# Altium integrated library TI_Logic_Little_Logic.IntLib: 1164 symbols (part 6 of 35)
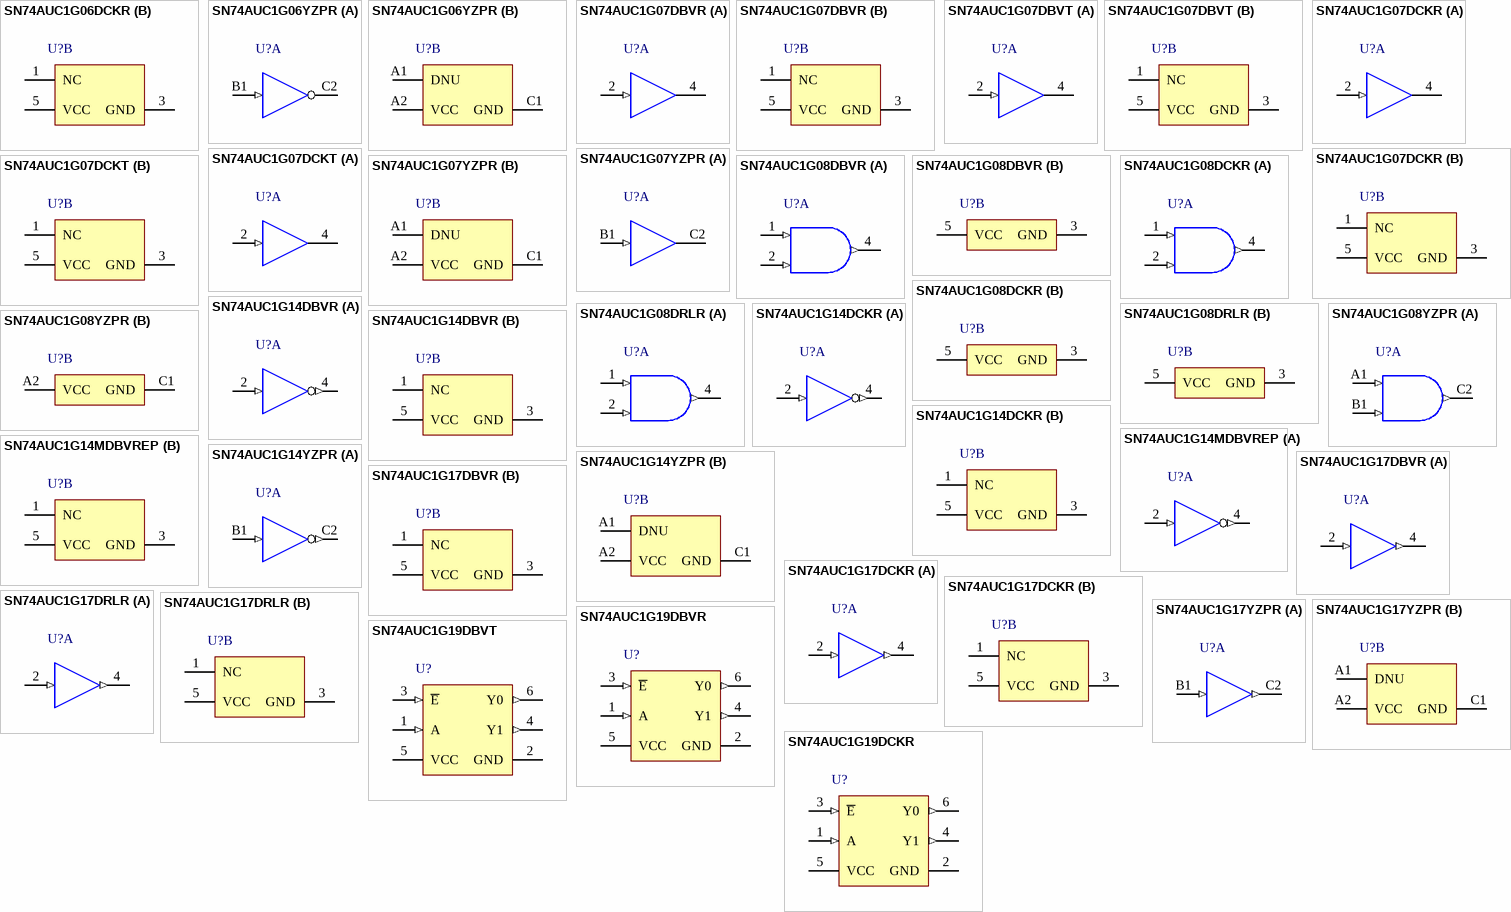
[diagram p65: symbols SN74AUC1G06DCKR to SN74AUC1G19DCKR]

## SN74AUC1G07DCKR
designator U?
Single Buffer/Driver With Open-Drain Output, DCK0005A, LARGE T&R; Generic Part Number: SN74AUC1G07; Manufacturer: Texas Instruments; PartNumber: SN74AUC1G07DCKR; VCC(Min)(V): 0.8; VCC(Max)(V): 2.7; Output Type: CMOS; ICC @ Nom Voltage(Max)(mA): 0.01; Bits(#): 1; F @ Nom Voltage(Max)(Mhz): 250; Rating: Catalog; Technology Family: AUC; Voltage(Nom)(V): 0.8,1.2,1.5,1.8,2.5; Schmitt Trigger: No; Output Drive (IOL/IOH)(Max)(mA): 9/-9; tpd @ Nom Voltage(Max)(ns): 4.7,3.3,2.4,2.3,1.8; Logic: True; Sub-Family: Non-Inverting Buffer/Driver; DatasheetVersion: SCES373Q; PackageReference: DCK0005A; Supplier 1: Mouser; Supplier Part Number 1: 595-SN74AUC1G07DCKR; Supplier 2: Digi-Key; Supplier Part Number 2: 296-12464-2-ND; Supplier 3: Digi-Key; Supplier Part Number 3: 296-12464-1-ND; Supplier 4: Digi-Key; Supplier Part Number 4: 296-12464-6-ND; Input Type: CMOS; Operating Temperature Range(C): -40 to 85; 3-State Output: No; ComponentLink1Description: Manufacturer URL; ComponentLink1URL: http://www.ti.com/; ComponentLink2Description: Datasheet; ComponentLink2URL: http://www.ti.com/lit/ds/symlink/sn74auc1g07.pdf
footprint DCK0005A_N (SOT23, 5-Leads, Body 2.15x1.4mm, Pitch 0.65mm, IPC Medium Density)
footprint DCK0005A_M (SOT23, 5-Leads, Body 2.15x1.4mm, Pitch 0.65mm, IPC Low Density)
footprint DCK0005A_L (SOT23, 5-Leads, Body 2.15x1.4mm, Pitch 0.65mm, IPC High Density)
part A pins: 2 A (in) "Input A", 4 Y (oc) "Output Y"
part B pins: 1 NC "No Connection", 3 GND (power) "Ground Pin", 5 VCC (power) "Power Pin"

## SN74AUC1G07DCKT
designator U?
Single Buffer/Driver With Open-Drain Output, DCK0005A, SMALL T&R; Generic Part Number: SN74AUC1G07; Manufacturer: Texas Instruments; PartNumber: SN74AUC1G07DCKT; VCC(Min)(V): 0.8; VCC(Max)(V): 2.7; Output Type: CMOS; ICC @ Nom Voltage(Max)(mA): 0.01; Bits(#): 1; F @ Nom Voltage(Max)(Mhz): 250; Rating: Catalog; Technology Family: AUC; Voltage(Nom)(V): 0.8,1.2,1.5,1.8,2.5; Schmitt Trigger: No; Output Drive (IOL/IOH)(Max)(mA): 9/-9; tpd @ Nom Voltage(Max)(ns): 4.7,3.3,2.4,2.3,1.8; Logic: True; Sub-Family: Non-Inverting Buffer/Driver; DatasheetVersion: SCES373Q; PackageReference: DCK0005A; Supplier 1: Mouser; Supplier Part Number 1: 595-SN74AUC1G07DCKT; Supplier 2: Digi-Key; Supplier Part Number 2: SN74AUC1G07DCKT-ND; Input Type: CMOS; Operating Temperature Range(C): -40 to 85; 3-State Output: No; ComponentLink1Description: Manufacturer URL; ComponentLink1URL: http://www.ti.com/; ComponentLink2Description: Datasheet; ComponentLink2URL: http://www.ti.com/lit/ds/symlink/sn74auc1g07.pdf
footprint DCK0005A_N (SOT23, 5-Leads, Body 2.15x1.4mm, Pitch 0.65mm, IPC Medium Density)
footprint DCK0005A_M (SOT23, 5-Leads, Body 2.15x1.4mm, Pitch 0.65mm, IPC Low Density)
footprint DCK0005A_L (SOT23, 5-Leads, Body 2.15x1.4mm, Pitch 0.65mm, IPC High Density)
part A pins: 2 A (in) "Input A", 4 Y (oc) "Output Y"
part B pins: 1 NC "No Connection", 3 GND (power) "Ground Pin", 5 VCC (power) "Power Pin"

## SN74AUC1G07YZPR
designator U?
Single Buffer/Driver With Open-Drain Output, YZP0005ADAD, LARGE T&R; Generic Part Number: SN74AUC1G07; Manufacturer: Texas Instruments; PartNumber: SN74AUC1G07YZPR; VCC(Min)(V): 0.8; VCC(Max)(V): 2.7; Output Type: CMOS; ICC @ Nom Voltage(Max)(mA): 0.01; Bits(#): 1; F @ Nom Voltage(Max)(Mhz): 250; Rating: Catalog; Technology Family: AUC; Voltage(Nom)(V): 0.8,1.2,1.5,1.8,2.5; Schmitt Trigger: No; Output Drive (IOL/IOH)(Max)(mA): 9/-9; tpd @ Nom Voltage(Max)(ns): 4.7,3.3,2.4,2.3,1.8; Logic: True; Sub-Family: Non-Inverting Buffer/Driver; DatasheetVersion: SCES373Q; PackageReference: YZP0005ADAD; Supplier 1: Mouser; Supplier Part Number 1: 595-SN74AUC1G07YZPR; Supplier 2: Digi-Key; Supplier Part Number 2: 296-18550-2-ND; Supplier 3: Digi-Key; Supplier Part Number 3: 296-18550-1-ND; Supplier 4: Digi-Key; Supplier Part Number 4: 296-18550-6-ND; Input Type: CMOS; Operating Temperature Range(C): -40 to 85; 3-State Output: No; ComponentLink1Description: Manufacturer URL; ComponentLink1URL: http://www.ti.com/; ComponentLink2Description: Datasheet; ComponentLink2URL: http://www.ti.com/lit/ds/symlink/sn74auc1g07.pdf
footprint YZP0005ADAD (BGA, 5-Balls, Body 1.39x0.89mm, Pitch 0.5mm)
part A pins: B1 A (in) "Input A", C2 Y (oc) "Output Y"
part B pins: A1 DNU "Do not use", A2 VCC (power) "Power Pin", C1 GND (power) "Ground Pin"

## SN74AUC1G08DBVR
designator U?
Single 2-Input Positive-AND Gate, DBV0005A, LARGE T&R; Generic Part Number: SN74AUC1G08; Manufacturer: Texas Instruments; PartNumber: SN74AUC1G08DBVR; VCC(Min)(V): 0.8; VCC(Max)(V): 2.7; Output Type: CMOS; ICC @ Nom Voltage(Max)(mA): 0.01; Bits(#): 1; F @ Nom Voltage(Max)(Mhz): 250; Rating: Catalog; Technology Family: AUC; Voltage(Nom)(V): 0.8,1.2,1.5,1.8,2.5; Schmitt Trigger: No; Output Drive (IOL/IOH)(Max)(mA): 9/-9; tpd @ Nom Voltage(Max)(ns): 4.7,3.3,2.3,1.7,1.6; Logic: True; Gate Type: AND; DatasheetVersion: SCES374O; PackageReference: DBV0005A; Supplier 1: Mouser; Supplier Part Number 1: 595-SN74AUC1G08DBVR; Supplier 2: Digi-Key; Supplier Part Number 2: 296-13170-2-ND; Supplier 3: Digi-Key; Supplier Part Number 3: 296-13170-1-ND; Supplier 4: Digi-Key; Supplier Part Number 4: 296-13170-6-ND; Input Type: CMOS; Operating Temperature Range(C): -40 to 85; Sub-Family: AND Gate; 3-State Output: No; ComponentLink1Description: Manufacturer URL; ComponentLink1URL: http://www.ti.com/; ComponentLink2Description: Datasheet; ComponentLink2URL: http://www.ti.com/lit/ds/symlink/sn74auc1g08.pdf
footprint DBV0005A_N (SOT23, 5-Leads, Body 3.05x1.75mm, Pitch 0.95mm, IPC Medium Density)
footprint DBV0005A_M (SOT23, 5-Leads, Body 3.05x1.75mm, Pitch 0.95mm, IPC Low Density)
footprint DBV0005A_L (SOT23, 5-Leads, Body 3.05x1.75mm, Pitch 0.95mm, IPC High Density)
part A pins: 1 A (in) "Input A", 2 B (in) "Input B", 4 Y (out) "Output Y"
part B pins: 3 GND (power) "Ground Pin", 5 VCC (power) "Power Pin"

## SN74AUC1G08DCKR
designator U?
Single 2-Input Positive-AND Gate, DCK0005A, LARGE T&R; Generic Part Number: SN74AUC1G08; Manufacturer: Texas Instruments; PartNumber: SN74AUC1G08DCKR; VCC(Min)(V): 0.8; VCC(Max)(V): 2.7; Output Type: CMOS; ICC @ Nom Voltage(Max)(mA): 0.01; Bits(#): 1; F @ Nom Voltage(Max)(Mhz): 250; Rating: Catalog; Technology Family: AUC; Voltage(Nom)(V): 0.8,1.2,1.5,1.8,2.5; Schmitt Trigger: No; Output Drive (IOL/IOH)(Max)(mA): 9/-9; tpd @ Nom Voltage(Max)(ns): 4.7,3.3,2.3,1.7,1.6; Logic: True; Gate Type: AND; DatasheetVersion: SCES374O; PackageReference: DCK0005A; Supplier 1: Mouser; Supplier Part Number 1: 595-SN74AUC1G08DCKR; Supplier 2: Digi-Key; Supplier Part Number 2: 296-13171-2-ND; Supplier 3: Digi-Key; Supplier Part Number 3: 296-13171-1-ND; Supplier 4: Digi-Key; Supplier Part Number 4: 296-13171-6-ND; Input Type: CMOS; Operating Temperature Range(C): -40 to 85; Sub-Family: AND Gate; 3-State Output: No; ComponentLink1Description: Manufacturer URL; ComponentLink1URL: http://www.ti.com/; ComponentLink2Description: Datasheet; ComponentLink2URL: http://www.ti.com/lit/ds/symlink/sn74auc1g08.pdf
footprint DCK0005A_N (SOT23, 5-Leads, Body 2.15x1.4mm, Pitch 0.65mm, IPC Medium Density)
footprint DCK0005A_M (SOT23, 5-Leads, Body 2.15x1.4mm, Pitch 0.65mm, IPC Low Density)
footprint DCK0005A_L (SOT23, 5-Leads, Body 2.15x1.4mm, Pitch 0.65mm, IPC High Density)
part A pins: 1 A (in) "Input A", 2 B (in) "Input B", 4 Y (out) "Output Y"
part B pins: 3 GND (power) "Ground Pin", 5 VCC (power) "Power Pin"

## SN74AUC1G08DRLR
designator U?
Single 2-Input Positive-AND Gate, DRL0005A, LARGE T&R; Generic Part Number: SN74AUC1G08; Manufacturer: Texas Instruments; PartNumber: SN74AUC1G08DRLR; VCC(Min)(V): 0.8; VCC(Max)(V): 2.7; Output Type: CMOS; ICC @ Nom Voltage(Max)(mA): 0.01; Bits(#): 1; F @ Nom Voltage(Max)(Mhz): 250; Rating: Catalog; Technology Family: AUC; Voltage(Nom)(V): 0.8,1.2,1.5,1.8,2.5; Schmitt Trigger: No; Output Drive (IOL/IOH)(Max)(mA): 9/-9; tpd @ Nom Voltage(Max)(ns): 4.7,3.3,2.3,1.7,1.6; Logic: True; Gate Type: AND; DatasheetVersion: SCES374O; PackageReference: DRL0005A; Supplier 1: Mouser; Supplier Part Number 1: 595-SN74AUC1G08DRLR; Supplier 2: Digi-Key; Supplier Part Number 2: 296-18294-2-ND; Supplier 3: Digi-Key; Supplier Part Number 3: 296-18294-1-ND; Supplier 4: Digi-Key; Supplier Part Number 4: 296-18294-6-ND; Input Type: CMOS; Operating Temperature Range(C): -40 to 85; Sub-Family: AND Gate; 3-State Output: No; ComponentLink1Description: Manufacturer URL; ComponentLink1URL: http://www.ti.com/; ComponentLink2Description: Datasheet; ComponentLink2URL: http://www.ti.com/lit/ds/symlink/sn74auc1g08.pdf
footprint DRL0005A_N (SOT23, 5-Leads, Body 1.7x1.3mm, Pitch 0.5mm, IPC Medium Density)
footprint DRL0005A_M (SOT23, 5-Leads, Body 1.7x1.3mm, Pitch 0.5mm, IPC Low Density)
footprint DRL0005A_L (SOT23, 5-Leads, Body 1.7x1.3mm, Pitch 0.5mm, IPC High Density)
part A pins: 1 A (in) "Input A", 2 B (in) "Input B", 4 Y (out) "Output Y"
part B pins: 3 GND (power) "Ground Pin", 5 VCC (power) "Power Pin"

## SN74AUC1G08YZPR
designator U?
Single 2-Input Positive-AND Gate, YZP0005ADAD, LARGE T&R; Generic Part Number: SN74AUC1G08; Manufacturer: Texas Instruments; PartNumber: SN74AUC1G08YZPR; VCC(Min)(V): 0.8; VCC(Max)(V): 2.7; Output Type: CMOS; ICC @ Nom Voltage(Max)(mA): 0.01; Bits(#): 1; F @ Nom Voltage(Max)(Mhz): 250; Rating: Catalog; Technology Family: AUC; Voltage(Nom)(V): 0.8,1.2,1.5,1.8,2.5; Schmitt Trigger: No; Output Drive (IOL/IOH)(Max)(mA): 9/-9; tpd @ Nom Voltage(Max)(ns): 4.7,3.3,2.3,1.7,1.6; Logic: True; Gate Type: AND; DatasheetVersion: SCES374O; PackageReference: YZP0005ADAD; Supplier 1: Mouser; Supplier Part Number 1: 595-SN74AUC1G08YZPR; Supplier 2: Digi-Key; Supplier Part Number 2: 296-15099-2-ND; Supplier 3: Digi-Key; Supplier Part Number 3: 296-15099-1-ND; Supplier 4: Digi-Key; Supplier Part Number 4: 296-15099-6-ND; Input Type: CMOS; Operating Temperature Range(C): -40 to 85; Sub-Family: AND Gate; 3-State Output: No; ComponentLink1Description: Manufacturer URL; ComponentLink1URL: http://www.ti.com/; ComponentLink2Description: Datasheet; ComponentLink2URL: http://www.ti.com/lit/ds/symlink/sn74auc1g08.pdf
footprint YZP0005ADAD (BGA, 5-Balls, Body 1.39x0.89mm, Pitch 0.5mm)
part A pins: A1 A (in) "Input", B1 B (in) "Input", C2 Y (out) "Output"
part B pins: A2 VCC (power) "Power pin", C1 GND (power) "Ground"

## SN74AUC1G14DBVR
designator U?
Single Schmitt-Trigger Inverter, DBV0005A, LARGE T&R; Generic Part Number: SN74AUC1G14; Manufacturer: Texas Instruments; PartNumber: SN74AUC1G14DBVR; VCC(Min)(V): 0.8; VCC(Max)(V): 2.7; Output Type: CMOS; ICC @ Nom Voltage(Max)(mA): 0.01; Bits(#): 1; F @ Nom Voltage(Max)(Mhz): 250; Rating: Catalog; Technology Family: AUC; Voltage(Nom)(V): 0.8,1.2,1.5,1.8,2.5; Schmitt Trigger: Yes; Output Drive (IOL/IOH)(Max)(mA): 9/-9; tpd @ Nom Voltage(Max)(ns): 5.8,4,2.3,1.9,1.6; Logic: Inverting; Sub-Family: Inverting Buffer/Driver; 3-State Output: No; DatasheetVersion: SCES375O; PackageReference: DBV0005A; Supplier 1: Mouser; Supplier Part Number 1: 595-SN74AUC1G14DBVR; Supplier 2: Digi-Key; Supplier Part Number 2: 296-12880-2-ND; Supplier 3: Digi-Key; Supplier Part Number 3: 296-12880-1-ND; Supplier 4: Digi-Key; Supplier Part Number 4: 296-12880-6-ND; Input Type: CMOS; Operating Temperature Range(C): -40 to 85; ComponentLink1Description: Manufacturer URL; ComponentLink1URL: http://www.ti.com/; ComponentLink2Description: Datasheet; ComponentLink2URL: http://www.ti.com/lit/ds/symlink/sn74auc1g14.pdf
footprint DBV0005A_N (SOT23, 5-Leads, Body 3.05x1.75mm, Pitch 0.95mm, IPC Medium Density)
footprint DBV0005A_M (SOT23, 5-Leads, Body 3.05x1.75mm, Pitch 0.95mm, IPC Low Density)
footprint DBV0005A_L (SOT23, 5-Leads, Body 3.05x1.75mm, Pitch 0.95mm, IPC High Density)
part A pins: 2 A (in) "Input A", 4 Y (out) "Output Y"
part B pins: 1 NC "Ground", 3 GND (power) "Ground Pin", 5 VCC (power) "Power Pin"

## SN74AUC1G14DCKR
designator U?
Single Schmitt-Trigger Inverter, DCK0005A, LARGE T&R; Generic Part Number: SN74AUC1G14; Manufacturer: Texas Instruments; PartNumber: SN74AUC1G14DCKR; VCC(Min)(V): 0.8; VCC(Max)(V): 2.7; Output Type: CMOS; ICC @ Nom Voltage(Max)(mA): 0.01; Bits(#): 1; F @ Nom Voltage(Max)(Mhz): 250; Rating: Catalog; Technology Family: AUC; Voltage(Nom)(V): 0.8,1.2,1.5,1.8,2.5; Schmitt Trigger: Yes; Output Drive (IOL/IOH)(Max)(mA): 9/-9; tpd @ Nom Voltage(Max)(ns): 5.8,4,2.3,1.9,1.6; Logic: Inverting; Sub-Family: Inverting Buffer/Driver; 3-State Output: No; DatasheetVersion: SCES375O; PackageReference: DCK0005A; Supplier 1: Mouser; Supplier Part Number 1: 595-SN74AUC1G14DCKR; Supplier 2: Digi-Key; Supplier Part Number 2: 296-13172-2-ND; Supplier 3: Digi-Key; Supplier Part Number 3: 296-13172-1-ND; Supplier 4: Digi-Key; Supplier Part Number 4: 296-13172-6-ND; Input Type: CMOS; Operating Temperature Range(C): -40 to 85; ComponentLink1Description: Manufacturer URL; ComponentLink1URL: http://www.ti.com/; ComponentLink2Description: Datasheet; ComponentLink2URL: http://www.ti.com/lit/ds/symlink/sn74auc1g14.pdf
footprint DCK0005A_N (SOT23, 5-Leads, Body 2.15x1.4mm, Pitch 0.65mm, IPC Medium Density)
footprint DCK0005A_M (SOT23, 5-Leads, Body 2.15x1.4mm, Pitch 0.65mm, IPC Low Density)
footprint DCK0005A_L (SOT23, 5-Leads, Body 2.15x1.4mm, Pitch 0.65mm, IPC High Density)
part A pins: 2 A (in) "Input A", 4 Y (out) "Output Y"
part B pins: 1 NC "Ground", 3 GND (power) "Ground Pin", 5 VCC (power) "Power Pin"

## SN74AUC1G14MDBVREP
designator U?
Enhanced Product Single Schmitt-Trigger Inverter, DBV0005A, LARGE T&R; Generic Part Number: SN74AUC1G14-EP; Manufacturer: Texas Instruments; PartNumber: SN74AUC1G14MDBVREP; VCC(Min)(V): 0.8; VCC(Max)(V): 2.7; Output Type: CMOS; ICC @ Nom Voltage(Max)(mA): 0.01; Bits(#): 1; F @ Nom Voltage(Max)(Mhz): 250; Rating: HiRel Enhanced Product; Technology Family: AUC; Voltage(Nom)(V): 0.8,1.2,1.5,1.8,2.5; Schmitt Trigger: Yes; Output Drive (IOL/IOH)(Max)(mA): 9/-9; tpd @ Nom Voltage(Max)(ns): 5.8,5.5,4.5,4,2; Logic: Inverting; Sub-Family: Inverting Buffer/Driver; 3-State Output: No; DatasheetVersion: SCES673; PackageReference: DBV0005A; Supplier 1: Mouser; Supplier Part Number 1: 595-SN74AUC14MDBVREP; Supplier 2: Digi-Key; Supplier Part Number 2: 296-22292-2-ND; Supplier 3: Digi-Key; Supplier Part Number 3: 296-22292-1-ND; Supplier 4: Digi-Key; Supplier Part Number 4: 296-22292-6-ND; Input Type: CMOS; Operating Temperature Range(C): -55 to 125; ComponentLink1Description: Manufacturer URL; ComponentLink1URL: http://www.ti.com/; ComponentLink2Description: Datasheet; ComponentLink2URL: http://www.ti.com/lit/ds/symlink/sn74auc1g14-ep.pdf
footprint DBV0005A_N (SOT23, 5-Leads, Body 3.05x1.75mm, Pitch 0.95mm, IPC Medium Density)
footprint DBV0005A_M (SOT23, 5-Leads, Body 3.05x1.75mm, Pitch 0.95mm, IPC Low Density)
footprint DBV0005A_L (SOT23, 5-Leads, Body 3.05x1.75mm, Pitch 0.95mm, IPC High Density)
part A pins: 2 A (in) "Input A", 4 Y (out) "Output Y"
part B pins: 1 NC "Ground", 3 GND (power) "Ground Pin", 5 VCC (power) "Power Pin"

## SN74AUC1G14YZPR
designator U?
Single Schmitt-Trigger Inverter, YZP0005ADAD, LARGE T&R; Generic Part Number: SN74AUC1G14; Manufacturer: Texas Instruments; PartNumber: SN74AUC1G14YZPR; VCC(Min)(V): 0.8; VCC(Max)(V): 2.7; Output Type: CMOS; ICC @ Nom Voltage(Max)(mA): 0.01; Bits(#): 1; F @ Nom Voltage(Max)(Mhz): 250; Rating: Catalog; Technology Family: AUC; Voltage(Nom)(V): 0.8,1.2,1.5,1.8,2.5; Schmitt Trigger: Yes; Output Drive (IOL/IOH)(Max)(mA): 9/-9; tpd @ Nom Voltage(Max)(ns): 5.8,4,2.3,1.9,1.6; Logic: Inverting; Sub-Family: Inverting Buffer/Driver; 3-State Output: No; DatasheetVersion: SCES375O; PackageReference: YZP0005ADAD; Supplier 1: Mouser; Supplier Part Number 1: 595-SN74AUC1G14YZPR; Supplier 2: Digi-Key; Supplier Part Number 2: 296-18554-2-ND; Supplier 3: Digi-Key; Supplier Part Number 3: 296-18554-1-ND; Input Type: CMOS; Operating Temperature Range(C): -40 to 85; ComponentLink1Description: Manufacturer URL; ComponentLink1URL: http://www.ti.com/; ComponentLink2Description: Datasheet; ComponentLink2URL: http://www.ti.com/lit/ds/symlink/sn74auc1g14.pdf
footprint YZP0005ADAD (BGA, 5-Balls, Body 1.39x0.89mm, Pitch 0.5mm)
part A pins: B1 A (in) "Input", C2 Y (out) "Output"
part B pins: A1 DNU "Do not use", A2 VCC (power) "Power terminal", C1 GND (power) "Ground"

## SN74AUC1G17DBVR
designator U?
Single Schmitt-Trigger Buffer, DBV0005A, LARGE T&R; Generic Part Number: SN74AUC1G17; Manufacturer: Texas Instruments; PartNumber: SN74AUC1G17DBVR; VCC(Min)(V): 0.8; VCC(Max)(V): 2.7; Output Type: CMOS; ICC @ Nom Voltage(Max)(mA): 0.01; Bits(#): 1; F @ Nom Voltage(Max)(Mhz): 250; Rating: Catalog; Technology Family: AUC; Voltage(Nom)(V): 0.8,1.2,1.5,1.8,2.5; Schmitt Trigger: Yes; Output Drive (IOL/IOH)(Max)(mA): 9/-9; tpd @ Nom Voltage(Max)(ns): 5.7,3.9,2.1,1.9,1.5; Logic: True; Sub-Family: Non-Inverting Buffer/Driver; 3-State Output: No; DatasheetVersion: SCES376N; PackageReference: DBV0005A; Supplier 1: Mouser; Supplier Part Number 1: 595-SN74AUC1G17DBVR; Supplier 2: Digi-Key; Supplier Part Number 2: 296-12654-2-ND; Supplier 3: Digi-Key; Supplier Part Number 3: 296-12654-1-ND; Supplier 4: Digi-Key; Supplier Part Number 4: 296-12654-6-ND; Input Type: CMOS; Operating Temperature Range(C): -40 to 85; ComponentLink1Description: Manufacturer URL; ComponentLink1URL: http://www.ti.com/; ComponentLink2Description: Datasheet; ComponentLink2URL: http://www.ti.com/lit/ds/symlink/sn74auc1g17.pdf
footprint DBV0005A_N (SOT23, 5-Leads, Body 3.05x1.75mm, Pitch 0.95mm, IPC Medium Density)
footprint DBV0005A_M (SOT23, 5-Leads, Body 3.05x1.75mm, Pitch 0.95mm, IPC Low Density)
footprint DBV0005A_L (SOT23, 5-Leads, Body 3.05x1.75mm, Pitch 0.95mm, IPC High Density)
part A pins: 2 A (in) "Input", 4 Y (out) "Output"
part B pins: 1 NC "Ground", 3 GND (power) "Ground Pin", 5 VCC (power) "Power Pin"

## SN74AUC1G17DCKR
designator U?
Single Schmitt-Trigger Buffer, DCK0005A, LARGE T&R; Generic Part Number: SN74AUC1G17; Manufacturer: Texas Instruments; PartNumber: SN74AUC1G17DCKR; VCC(Min)(V): 0.8; VCC(Max)(V): 2.7; Output Type: CMOS; ICC @ Nom Voltage(Max)(mA): 0.01; Bits(#): 1; F @ Nom Voltage(Max)(Mhz): 250; Rating: Catalog; Technology Family: AUC; Voltage(Nom)(V): 0.8,1.2,1.5,1.8,2.5; Schmitt Trigger: Yes; Output Drive (IOL/IOH)(Max)(mA): 9/-9; tpd @ Nom Voltage(Max)(ns): 5.7,3.9,2.1,1.9,1.5; Logic: True; Sub-Family: Non-Inverting Buffer/Driver; 3-State Output: No; DatasheetVersion: SCES376N; PackageReference: DCK0005A; Supplier 1: Mouser; Supplier Part Number 1: 595-SN74AUC1G17DCKR; Supplier 2: Digi-Key; Supplier Part Number 2: 296-13173-2-ND; Supplier 3: Digi-Key; Supplier Part Number 3: 296-13173-1-ND; Supplier 4: Digi-Key; Supplier Part Number 4: 296-13173-6-ND; Input Type: CMOS; Operating Temperature Range(C): -40 to 85; ComponentLink1Description: Manufacturer URL; ComponentLink1URL: http://www.ti.com/; ComponentLink2Description: Datasheet; ComponentLink2URL: http://www.ti.com/lit/ds/symlink/sn74auc1g17.pdf
footprint DCK0005A_N (SOT23, 5-Leads, Body 2.15x1.4mm, Pitch 0.65mm, IPC Medium Density)
footprint DCK0005A_M (SOT23, 5-Leads, Body 2.15x1.4mm, Pitch 0.65mm, IPC Low Density)
footprint DCK0005A_L (SOT23, 5-Leads, Body 2.15x1.4mm, Pitch 0.65mm, IPC High Density)
part A pins: 2 A (in), 4 Y (out)
part B pins: 1 NC, 3 GND (power), 5 VCC (power)

## SN74AUC1G17DRLR
designator U?
Single Schmitt-Trigger Buffer, DRL0005A, LARGE T&R; Generic Part Number: SN74AUC1G17; Manufacturer: Texas Instruments; PartNumber: SN74AUC1G17DRLR; VCC(Min)(V): 0.8; VCC(Max)(V): 2.7; Output Type: CMOS; ICC @ Nom Voltage(Max)(mA): 0.01; Bits(#): 1; F @ Nom Voltage(Max)(Mhz): 250; Rating: Catalog; Technology Family: AUC; Voltage(Nom)(V): 0.8,1.2,1.5,1.8,2.5; Schmitt Trigger: Yes; Output Drive (IOL/IOH)(Max)(mA): 9/-9; tpd @ Nom Voltage(Max)(ns): 5.7,3.9,2.1,1.9,1.5; Logic: True; Sub-Family: Non-Inverting Buffer/Driver; 3-State Output: No; DatasheetVersion: SCES376N; PackageReference: DRL0005A; Supplier 1: Mouser; Supplier Part Number 1: 595-SN74AUC1G17DRLR; Supplier 2: Digi-Key; Supplier Part Number 2: 296-18646-2-ND; Supplier 3: Digi-Key; Supplier Part Number 3: 296-18646-1-ND; Supplier 4: Digi-Key; Supplier Part Number 4: 296-18646-6-ND; Input Type: CMOS; Operating Temperature Range(C): -40 to 85; ComponentLink1Description: Manufacturer URL; ComponentLink1URL: http://www.ti.com/; ComponentLink2Description: Datasheet; ComponentLink2URL: http://www.ti.com/lit/ds/symlink/sn74auc1g17.pdf
footprint DRL0005A_N (SOT23, 5-Leads, Body 1.7x1.3mm, Pitch 0.5mm, IPC Medium Density)
footprint DRL0005A_M (SOT23, 5-Leads, Body 1.7x1.3mm, Pitch 0.5mm, IPC Low Density)
footprint DRL0005A_L (SOT23, 5-Leads, Body 1.7x1.3mm, Pitch 0.5mm, IPC High Density)
part A pins: 2 A (in) "Input", 4 Y (out) "Output"
part B pins: 1 NC "Ground", 3 GND (power) "Ground Pin", 5 VCC (power) "Power Pin"

## SN74AUC1G17YZPR
designator U?
Single Schmitt-Trigger Buffer, YZP0005ADAD, LARGE T&R; Generic Part Number: SN74AUC1G17; Manufacturer: Texas Instruments; PartNumber: SN74AUC1G17YZPR; VCC(Min)(V): 0.8; VCC(Max)(V): 2.7; Output Type: CMOS; ICC @ Nom Voltage(Max)(mA): 0.01; Bits(#): 1; F @ Nom Voltage(Max)(Mhz): 250; Rating: Catalog; Technology Family: AUC; Voltage(Nom)(V): 0.8,1.2,1.5,1.8,2.5; Schmitt Trigger: Yes; Output Drive (IOL/IOH)(Max)(mA): 9/-9; tpd @ Nom Voltage(Max)(ns): 5.7,3.9,2.1,1.9,1.5; Logic: True; Sub-Family: Non-Inverting Buffer/Driver; 3-State Output: No; DatasheetVersion: SCES376N; PackageReference: YZP0005ADAD; Supplier 1: Mouser; Supplier Part Number 1: 595-SN74AUC1G17YZPR; Supplier 2: Digi-Key; Supplier Part Number 2: 296-18556-2-ND; Supplier 3: Digi-Key; Supplier Part Number 3: 296-18556-1-ND; Supplier 4: Digi-Key; Supplier Part Number 4: 296-18556-6-ND; Input Type: CMOS; Operating Temperature Range(C): -40 to 85; ComponentLink1Description: Manufacturer URL; ComponentLink1URL: http://www.ti.com/; ComponentLink2Description: Datasheet; ComponentLink2URL: http://www.ti.com/lit/ds/symlink/sn74auc1g17.pdf
footprint YZP0005ADAD (BGA, 5-Balls, Body 1.39x0.89mm, Pitch 0.5mm)
part A pins: B1 A (in) "Input", C2 Y (out) "Output"
part B pins: A1 DNU "Do not use", A2 VCC (power) "Power", C1 GND (power) "Ground"

## SN74AUC1G19DBVR
designator U?
1-of-2 Decoder/Demultiplexer, DBV0006A, LARGE T&R; Generic Part Number: SN74AUC1G19; Manufacturer: Texas Instruments; PartNumber: SN74AUC1G19DBVR; VCC(Min)(V): 0.8; VCC(Max)(V): 2.5; Output Type: CMOS; ICC @ Nom Voltage(Max)(mA): 0.01; Bits(#): 1; F @ Nom Voltage(Max)(Mhz): 250; Rating: Catalog; Technology Family: AUC; Voltage(Nom)(V): 0.8,1.2,1.5,1.8,2.5; Schmitt Trigger: No; Output Drive (IOL/IOH)(Max)(mA): 9/-9; tpd @ Nom Voltage(Max)(ns): 7.5,4.6,2.0,2.4,1.7; Logic: True; Sub-Family: Decoder/Encoder/Multiplexer; DatasheetVersion: SCES626D; PackageReference: DBV0006A; Supplier 1: Mouser; Supplier Part Number 1: 595-SN74AUC1G19DBVR; Supplier 2: Digi-Key; Supplier Part Number 2: 296-17895-2-ND; Supplier 3: Digi-Key; Supplier Part Number 3: 296-17895-1-ND; Supplier 4: Digi-Key; Supplier Part Number 4: 296-17895-6-ND; Input Type: CMOS; Operating Temperature Range(C): -40 to 85; Specialty Logic Family: Decoder/Encoder/Multiplexer; 3-State Output: No; ComponentLink1Description: Manufacturer URL; ComponentLink1URL: http://www.ti.com/; ComponentLink2Description: Datasheet; ComponentLink2URL: http://www.ti.com/lit/ds/symlink/sn74auc1g19.pdf
footprint DBV0006A_N (SOT23, 6-Leads, Body 3.05x1.75mm, Pitch 0.95mm, IPC Medium Density)
footprint DBV0006A_M (SOT23, 6-Leads, Body 3.05x1.75mm, Pitch 0.95mm, IPC Low Density)
footprint DBV0006A_L (SOT23, 6-Leads, Body 3.05x1.75mm, Pitch 0.95mm, IPC High Density)
pins: 1 A (in), 2 GND (power), 3 ~{E} (in), 4 Y1 (out), 5 VCC (power), 6 Y0 (out)

## SN74AUC1G19DBVT
designator U?
1-of-2 Decoder/Demultiplexer, DBV0006A, SMALL T&R; Generic Part Number: SN74AUC1G19; Manufacturer: Texas Instruments; PartNumber: SN74AUC1G19DBVT; VCC(Min)(V): 0.8; VCC(Max)(V): 2.5; Output Type: CMOS; ICC @ Nom Voltage(Max)(mA): 0.01; Bits(#): 1; F @ Nom Voltage(Max)(Mhz): 250; Rating: Catalog; Technology Family: AUC; Voltage(Nom)(V): 0.8,1.2,1.5,1.8,2.5; Schmitt Trigger: No; Output Drive (IOL/IOH)(Max)(mA): 9/-9; tpd @ Nom Voltage(Max)(ns): 7.5,4.6,2.0,2.4,1.7; Logic: True; Sub-Family: Decoder/Encoder/Multiplexer; DatasheetVersion: SCES626D; PackageReference: DBV0006A; Supplier 1: Mouser; Supplier Part Number 1: 595-SN74AUC1G19DBVT; Supplier 2: Digi-Key; Supplier Part Number 2: SN74AUC1G19DBVT-ND; Input Type: CMOS; Operating Temperature Range(C): -40 to 85; Specialty Logic Family: Decoder/Encoder/Multiplexer; 3-State Output: No; ComponentLink1Description: Manufacturer URL; ComponentLink1URL: http://www.ti.com/; ComponentLink2Description: Datasheet; ComponentLink2URL: http://www.ti.com/lit/ds/symlink/sn74auc1g19.pdf
footprint DBV0006A_N (SOT23, 6-Leads, Body 3.05x1.75mm, Pitch 0.95mm, IPC Medium Density)
footprint DBV0006A_M (SOT23, 6-Leads, Body 3.05x1.75mm, Pitch 0.95mm, IPC Low Density)
footprint DBV0006A_L (SOT23, 6-Leads, Body 3.05x1.75mm, Pitch 0.95mm, IPC High Density)
pins: 1 A (in), 2 GND (power), 3 ~{E} (in), 4 Y1 (out), 5 VCC (power), 6 Y0 (out)

## SN74AUC1G19DCKR
designator U?
1-of-2 Decoder/Demultiplexer, DCK0006A, LARGE T&R; Generic Part Number: SN74AUC1G19; Manufacturer: Texas Instruments; PartNumber: SN74AUC1G19DCKR; VCC(Min)(V): 0.8; VCC(Max)(V): 2.5; Output Type: CMOS; ICC @ Nom Voltage(Max)(mA): 0.01; Bits(#): 1; F @ Nom Voltage(Max)(Mhz): 250; Rating: Catalog; Technology Family: AUC; Voltage(Nom)(V): 0.8,1.2,1.5,1.8,2.5; Schmitt Trigger: No; Output Drive (IOL/IOH)(Max)(mA): 9/-9; tpd @ Nom Voltage(Max)(ns): 7.5,4.6,2.0,2.4,1.7; Logic: True; Sub-Family: Decoder/Encoder/Multiplexer; DatasheetVersion: SCES626D; PackageReference: DCK0006A; Supplier 1: Mouser; Supplier Part Number 1: 595-SN74AUC1G19DCKR; Supplier 2: Digi-Key; Supplier Part Number 2: 296-17896-2-ND; Supplier 3: Digi-Key; Supplier Part Number 3: 296-17896-1-ND; Supplier 4: Digi-Key; Supplier Part Number 4: 296-17896-6-ND; Input Type: CMOS; Operating Temperature Range(C): -40 to 85; Specialty Logic Family: Decoder/Encoder/Multiplexer; 3-State Output: No; ComponentLink1Description: Manufacturer URL; ComponentLink1URL: http://www.ti.com/; ComponentLink2Description: Datasheet; ComponentLink2URL: http://www.ti.com/lit/ds/symlink/sn74auc1g19.pdf
footprint DCK0006A_N (SOT23, 6-Leads, Body 2.15x1.4mm, Pitch 0.65mm, IPC Medium Density)
footprint DCK0006A_M (SOT23, 6-Leads, Body 2.15x1.4mm, Pitch 0.65mm, IPC Low Density)
footprint DCK0006A_L (SOT23, 6-Leads, Body 2.15x1.4mm, Pitch 0.65mm, IPC High Density)
pins: 1 A (in), 2 GND (power), 3 ~{E} (in), 4 Y1 (out), 5 VCC (power), 6 Y0 (out)

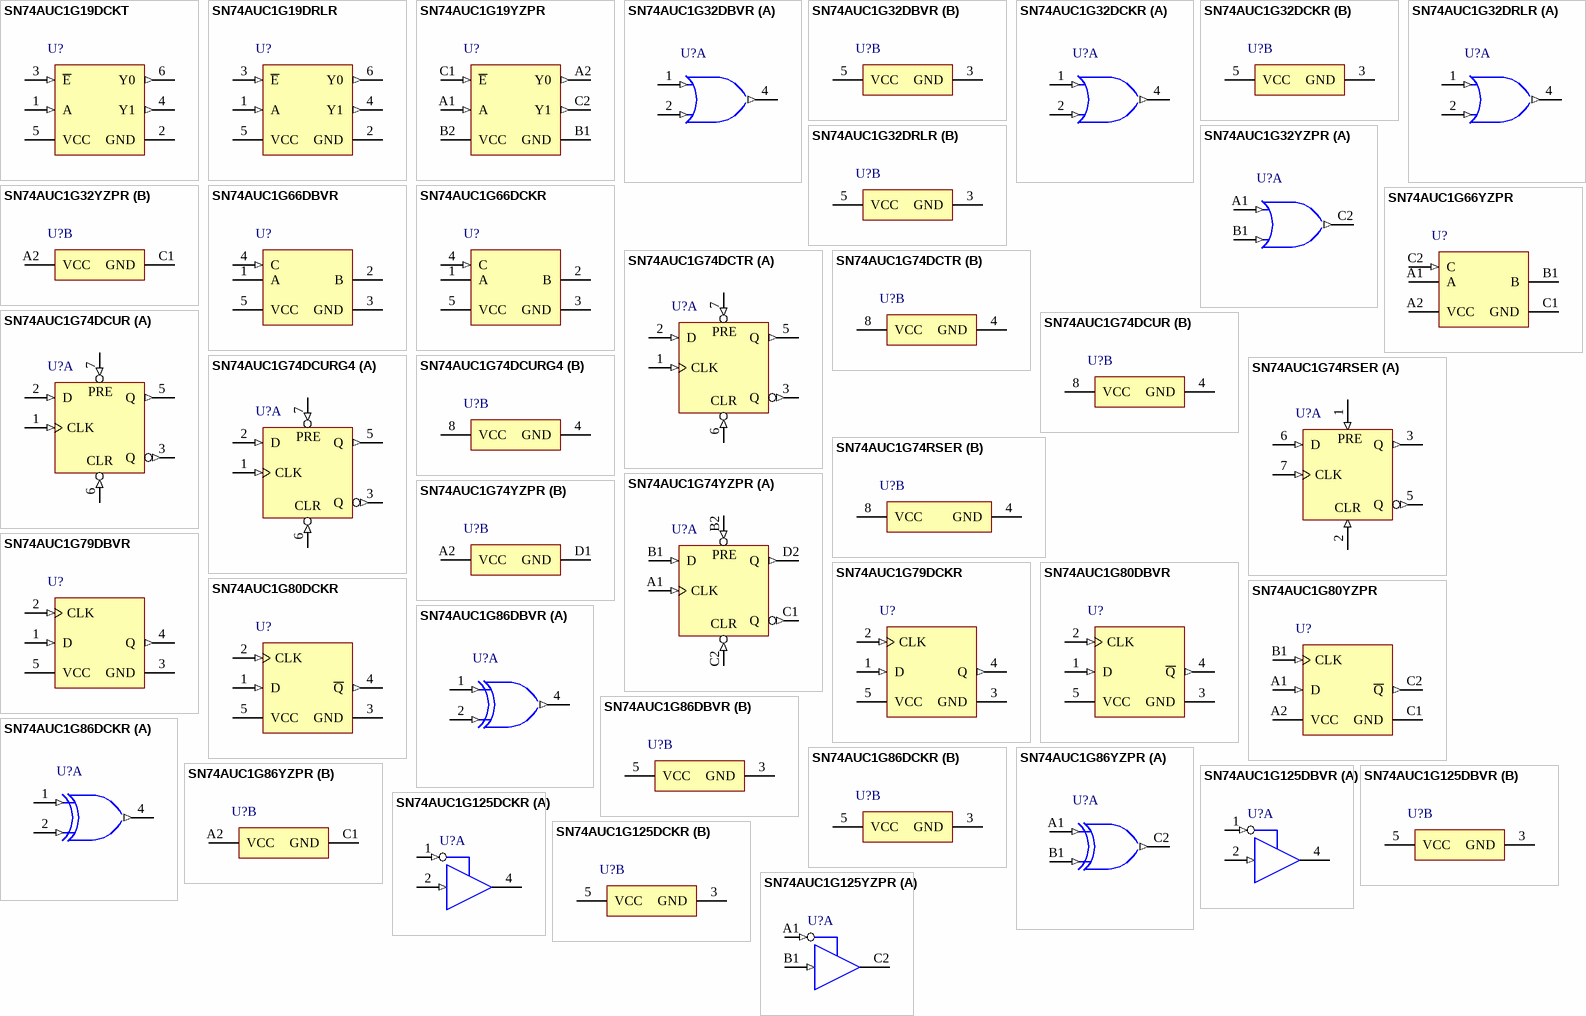
[diagram p9: symbols SN74AUC1G19DCKT to SN74AUC1G125YZPR]

## SN74AUC1G19DCKT
designator U?
1-of-2 Decoder/Demultiplexer, DCK0006A, SMALL T&R; Generic Part Number: SN74AUC1G19; Manufacturer: Texas Instruments; PartNumber: SN74AUC1G19DCKT; VCC(Min)(V): 0.8; VCC(Max)(V): 2.5; Output Type: CMOS; ICC @ Nom Voltage(Max)(mA): 0.01; Bits(#): 1; F @ Nom Voltage(Max)(Mhz): 250; Rating: Catalog; Technology Family: AUC; Voltage(Nom)(V): 0.8,1.2,1.5,1.8,2.5; Schmitt Trigger: No; Output Drive (IOL/IOH)(Max)(mA): 9/-9; tpd @ Nom Voltage(Max)(ns): 7.5,4.6,2.0,2.4,1.7; Logic: True; Sub-Family: Decoder/Encoder/Multiplexer; DatasheetVersion: SCES626D; PackageReference: DCK0006A; Supplier 1: Mouser; Supplier Part Number 1: 595-SN74AUC1G19DCKT; Supplier 2: Digi-Key; Supplier Part Number 2: SN74AUC1G19DCKT-ND; Input Type: CMOS; Operating Temperature Range(C): -40 to 85; Specialty Logic Family: Decoder/Encoder/Multiplexer; 3-State Output: No; ComponentLink1Description: Manufacturer URL; ComponentLink1URL: http://www.ti.com/; ComponentLink2Description: Datasheet; ComponentLink2URL: http://www.ti.com/lit/ds/symlink/sn74auc1g19.pdf
footprint DCK0006A_N (SOT23, 6-Leads, Body 2.15x1.4mm, Pitch 0.65mm, IPC Medium Density)
footprint DCK0006A_M (SOT23, 6-Leads, Body 2.15x1.4mm, Pitch 0.65mm, IPC Low Density)
footprint DCK0006A_L (SOT23, 6-Leads, Body 2.15x1.4mm, Pitch 0.65mm, IPC High Density)
pins: 1 A (in), 2 GND (power), 3 ~{E} (in), 4 Y1 (out), 5 VCC (power), 6 Y0 (out)

## SN74AUC1G19DRLR
designator U?
1-of-2 Decoder/Demultiplexer, DRL0006A, LARGE T&R; Generic Part Number: SN74AUC1G19; Manufacturer: Texas Instruments; PartNumber: SN74AUC1G19DRLR; VCC(Min)(V): 0.8; VCC(Max)(V): 2.5; Output Type: CMOS; ICC @ Nom Voltage(Max)(mA): 0.01; Bits(#): 1; F @ Nom Voltage(Max)(Mhz): 250; Rating: Catalog; Technology Family: AUC; Voltage(Nom)(V): 0.8,1.2,1.5,1.8,2.5; Schmitt Trigger: No; Output Drive (IOL/IOH)(Max)(mA): 9/-9; tpd @ Nom Voltage(Max)(ns): 7.5,4.6,2.0,2.4,1.7; Logic: True; Sub-Family: Decoder/Encoder/Multiplexer; DatasheetVersion: SCES626D; PackageReference: DRL0006A; Supplier 1: Mouser; Supplier Part Number 1: 595-SN74AUC1G19DRLR; Supplier 2: Digi-Key; Supplier Part Number 2: 296-18711-2-ND; Supplier 3: Digi-Key; Supplier Part Number 3: 296-18711-1-ND; Supplier 4: Digi-Key; Supplier Part Number 4: 296-18711-6-ND; Input Type: CMOS; Operating Temperature Range(C): -40 to 85; Specialty Logic Family: Decoder/Encoder/Multiplexer; 3-State Output: No; ComponentLink1Description: Manufacturer URL; ComponentLink1URL: http://www.ti.com/; ComponentLink2Description: Datasheet; ComponentLink2URL: http://www.ti.com/lit/ds/symlink/sn74auc1g19.pdf
footprint DRL0006A_N (SOT23, 6-Leads, Body 1.7x1.3mm, Pitch 0.5mm, IPC Medium Density)
footprint DRL0006A_M (SOT23, 6-Leads, Body 1.7x1.3mm, Pitch 0.5mm, IPC Low Density)
footprint DRL0006A_L (SOT23, 6-Leads, Body 1.7x1.3mm, Pitch 0.5mm, IPC High Density)
pins: 1 A (in), 2 GND (power), 3 ~{E} (in), 4 Y1 (out), 5 VCC (power), 6 Y0 (out)

## SN74AUC1G19YZPR
designator U?
1-of-2 Decoder/Demultiplexer, YZP0006ADAD, LARGE T&R; Generic Part Number: SN74AUC1G19; Manufacturer: Texas Instruments; PartNumber: SN74AUC1G19YZPR; VCC(Min)(V): 0.8; VCC(Max)(V): 2.5; Output Type: CMOS; ICC @ Nom Voltage(Max)(mA): 0.01; Bits(#): 1; F @ Nom Voltage(Max)(Mhz): 250; Rating: Catalog; Technology Family: AUC; Voltage(Nom)(V): 0.8,1.2,1.5,1.8,2.5; Schmitt Trigger: No; Output Drive (IOL/IOH)(Max)(mA): 9/-9; tpd @ Nom Voltage(Max)(ns): 7.5,4.6,2.0,2.4,1.7; Logic: True; Sub-Family: Decoder/Encoder/Multiplexer; DatasheetVersion: SCES626D; PackageReference: YZP0006ADAD; Supplier 1: Mouser; Supplier Part Number 1: 595-SN74AUC1G19YZPR; Supplier 2: Digi-Key; Supplier Part Number 2: 296-17897-2-ND; Supplier 3: Digi-Key; Supplier Part Number 3: 296-17897-1-ND; Supplier 4: Digi-Key; Supplier Part Number 4: 296-17897-6-ND; Input Type: CMOS; Operating Temperature Range(C): -40 to 85; Specialty Logic Family: Decoder/Encoder/Multiplexer; 3-State Output: No; ComponentLink1Description: Manufacturer URL; ComponentLink1URL: http://www.ti.com/; ComponentLink2Description: Datasheet; ComponentLink2URL: http://www.ti.com/lit/ds/symlink/sn74auc1g19.pdf
footprint YZP0006ADAD (BGA, 6-Balls, Body 1.39x0.89mm, Pitch 0.5mm)
pins: A1 A (in), A2 Y0 (out), B1 GND (power), B2 VCC (power), C1 ~{E} (in), C2 Y1 (out)

## SN74AUC1G32DBVR
designator U?
Single 2-Input Positive-OR Gate, DBV0005A, LARGE T&R; Generic Part Number: SN74AUC1G32; Manufacturer: Texas Instruments; PartNumber: SN74AUC1G32DBVR; VCC(Min)(V): 0.8; VCC(Max)(V): 2.7; Output Type: CMOS; ICC @ Nom Voltage(Max)(mA): 0.01; Bits(#): 1; F @ Nom Voltage(Max)(Mhz): 250; Rating: Catalog; Technology Family: AUC; Voltage(Nom)(V): 0.8,1.2,1.5,1.8,2.5; Schmitt Trigger: No; Output Drive (IOL/IOH)(Max)(mA): 9/-9; tpd @ Nom Voltage(Max)(ns): 4.8,3.5,2.3,1.5,1.4; Logic: True; Gate Type: OR; Sub-Family: OR Gate; DatasheetVersion: SCES377O; PackageReference: DBV0005A; Supplier 1: Mouser; Supplier Part Number 1: 595-SN74AUC1G32DBVR; Supplier 2: Digi-Key; Supplier Part Number 2: 296-12655-2-ND; Supplier 3: Digi-Key; Supplier Part Number 3: 296-12655-1-ND; Supplier 4: Digi-Key; Supplier Part Number 4: 296-12655-6-ND; Input Type: CMOS; Operating Temperature Range(C): -40 to 85; 3-State Output: No; ComponentLink1Description: Manufacturer URL; ComponentLink1URL: http://www.ti.com/; ComponentLink2Description: Datasheet; ComponentLink2URL: http://www.ti.com/lit/ds/symlink/sn74auc1g32.pdf
footprint DBV0005A_N (SOT23, 5-Leads, Body 3.05x1.75mm, Pitch 0.95mm, IPC Medium Density)
footprint DBV0005A_M (SOT23, 5-Leads, Body 3.05x1.75mm, Pitch 0.95mm, IPC Low Density)
footprint DBV0005A_L (SOT23, 5-Leads, Body 3.05x1.75mm, Pitch 0.95mm, IPC High Density)
part A pins: 1 A (in) "Input A", 2 B (in) "Input B", 4 Y (out) "Output Y"
part B pins: 3 GND (power) "Ground Pin", 5 VCC (power) "Power Pin"

## SN74AUC1G32DCKR
designator U?
Single 2-Input Positive-OR Gate, DCK0005A, LARGE T&R; Generic Part Number: SN74AUC1G32; Manufacturer: Texas Instruments; PartNumber: SN74AUC1G32DCKR; VCC(Min)(V): 0.8; VCC(Max)(V): 2.7; Output Type: CMOS; ICC @ Nom Voltage(Max)(mA): 0.01; Bits(#): 1; F @ Nom Voltage(Max)(Mhz): 250; Rating: Catalog; Technology Family: AUC; Voltage(Nom)(V): 0.8,1.2,1.5,1.8,2.5; Schmitt Trigger: No; Output Drive (IOL/IOH)(Max)(mA): 9/-9; tpd @ Nom Voltage(Max)(ns): 4.8,3.5,2.3,1.5,1.4; Logic: True; Gate Type: OR; Sub-Family: OR Gate; DatasheetVersion: SCES377O; PackageReference: DCK0005A; Supplier 1: Mouser; Supplier Part Number 1: 595-SN74AUC1G32DCKR; Supplier 2: Digi-Key; Supplier Part Number 2: 296-12656-2-ND; Supplier 3: Digi-Key; Supplier Part Number 3: 296-12656-1-ND; Supplier 4: Digi-Key; Supplier Part Number 4: 296-12656-6-ND; Input Type: CMOS; Operating Temperature Range(C): -40 to 85; 3-State Output: No; ComponentLink1Description: Manufacturer URL; ComponentLink1URL: http://www.ti.com/; ComponentLink2Description: Datasheet; ComponentLink2URL: http://www.ti.com/lit/ds/symlink/sn74auc1g32.pdf
footprint DCK0005A_N (SOT23, 5-Leads, Body 2.15x1.4mm, Pitch 0.65mm, IPC Medium Density)
footprint DCK0005A_M (SOT23, 5-Leads, Body 2.15x1.4mm, Pitch 0.65mm, IPC Low Density)
footprint DCK0005A_L (SOT23, 5-Leads, Body 2.15x1.4mm, Pitch 0.65mm, IPC High Density)
part A pins: 1 A (in) "Input A", 2 B (in) "Input B", 4 Y (out) "Output Y"
part B pins: 3 GND (power) "Ground Pin", 5 VCC (power) "Power Pin"

## SN74AUC1G32DRLR
designator U?
Single 2-Input Positive-OR Gate, DRL0005A, LARGE T&R; Generic Part Number: SN74AUC1G32; Manufacturer: Texas Instruments; PartNumber: SN74AUC1G32DRLR; VCC(Min)(V): 0.8; VCC(Max)(V): 2.7; Output Type: CMOS; ICC @ Nom Voltage(Max)(mA): 0.01; Bits(#): 1; F @ Nom Voltage(Max)(Mhz): 250; Rating: Catalog; Technology Family: AUC; Voltage(Nom)(V): 0.8,1.2,1.5,1.8,2.5; Schmitt Trigger: No; Output Drive (IOL/IOH)(Max)(mA): 9/-9; tpd @ Nom Voltage(Max)(ns): 4.8,3.5,2.3,1.5,1.4; Logic: True; Gate Type: OR; Sub-Family: OR Gate; DatasheetVersion: SCES377O; PackageReference: DRL0005A; Supplier 1: Mouser; Supplier Part Number 1: 595-SN74AUC1G32DRLR; Supplier 2: Digi-Key; Supplier Part Number 2: 296-18647-2-ND; Supplier 3: Digi-Key; Supplier Part Number 3: 296-18647-1-ND; Supplier 4: Digi-Key; Supplier Part Number 4: 296-18647-6-ND; Input Type: CMOS; Operating Temperature Range(C): -40 to 85; 3-State Output: No; ComponentLink1Description: Manufacturer URL; ComponentLink1URL: http://www.ti.com/; ComponentLink2Description: Datasheet; ComponentLink2URL: http://www.ti.com/lit/ds/symlink/sn74auc1g32.pdf
footprint DRL0005A_N (SOT23, 5-Leads, Body 1.7x1.3mm, Pitch 0.5mm, IPC Medium Density)
footprint DRL0005A_M (SOT23, 5-Leads, Body 1.7x1.3mm, Pitch 0.5mm, IPC Low Density)
footprint DRL0005A_L (SOT23, 5-Leads, Body 1.7x1.3mm, Pitch 0.5mm, IPC High Density)
part A pins: 1 A (in) "Input A", 2 B (in) "Input B", 4 Y (out) "Output Y"
part B pins: 3 GND (power) "Ground Pin", 5 VCC (power) "Power Pin"

## SN74AUC1G32YZPR
designator U?
Single 2-Input Positive-OR Gate, YZP0005ADAD, LARGE T&R; Generic Part Number: SN74AUC1G32; Manufacturer: Texas Instruments; PartNumber: SN74AUC1G32YZPR; VCC(Min)(V): 0.8; VCC(Max)(V): 2.7; Output Type: CMOS; ICC @ Nom Voltage(Max)(mA): 0.01; Bits(#): 1; F @ Nom Voltage(Max)(Mhz): 250; Rating: Catalog; Technology Family: AUC; Voltage(Nom)(V): 0.8,1.2,1.5,1.8,2.5; Schmitt Trigger: No; Output Drive (IOL/IOH)(Max)(mA): 9/-9; tpd @ Nom Voltage(Max)(ns): 4.8,3.5,2.3,1.5,1.4; Logic: True; Gate Type: OR; Sub-Family: OR Gate; DatasheetVersion: SCES377O; PackageReference: YZP0005ADAD; Supplier 1: Mouser; Supplier Part Number 1: 595-SN74AUC1G32YZPR; Supplier 2: Digi-Key; Supplier Part Number 2: 296-18558-2-ND; Supplier 3: Digi-Key; Supplier Part Number 3: 296-18558-1-ND; Input Type: CMOS; Operating Temperature Range(C): -40 to 85; 3-State Output: No; ComponentLink1Description: Manufacturer URL; ComponentLink1URL: http://www.ti.com/; ComponentLink2Description: Datasheet; ComponentLink2URL: http://www.ti.com/lit/ds/symlink/sn74auc1g32.pdf
footprint YZP0005ADAD (BGA, 5-Balls, Body 1.39x0.89mm, Pitch 0.5mm)
part A pins: A1 A (in), B1 B (in), C2 Y (out)
part B pins: A2 VCC (power), C1 GND (power)

## SN74AUC1G66DBVR
designator U?
Single Bilateral Analog Switch, DBV0005A, LARGE T&R; Generic Part Number: SN74AUC1G66; Manufacturer: Texas Instruments; PartNumber: SN74AUC1G66DBVR; VCC(Min)(V): 0.8; VCC(Max)(V): 2.7; Output Type: CMOS; Logic: True; ICC @ Nom Voltage(Max)(mA): 0.01; Bits(#): 1; F @ Nom Voltage(Max)(Mhz): 250; Rating: Catalog; Technology Family: AUC; Voltage(Nom)(V): 0.8,1.2,1.5,1.8,2.5; Schmitt Trigger: No; Output Drive (IOL/IOH)(Max)(mA): 9/-9; Switch Configuration: SPST; tpd @ Nom Voltage(Max)(ns): 0.9,0.3,0.2,0.1; DatasheetVersion: SCES386L; PackageReference: DBV0005A; Supplier 1: Mouser; Supplier Part Number 1: 595-SN74AUC1G66DBVR; Supplier 2: Digi-Key; Supplier Part Number 2: 296-15427-2-ND; Supplier 3: Digi-Key; Supplier Part Number 3: 296-15427-1-ND; Supplier 4: Digi-Key; Supplier Part Number 4: 296-15427-6-ND; Input Type: CMOS; Operating Temperature Range(C): -40 to 85; Channels(#): 1; Sub-Family: Analog Switch; 3-State Output: No; ComponentLink1Description: Manufacturer URL; ComponentLink1URL: http://www.ti.com/; ComponentLink2Description: Datasheet; ComponentLink2URL: http://www.ti.com/lit/ds/symlink/sn74auc1g66.pdf
footprint DBV0005A_N (SOT23, 5-Leads, Body 3.05x1.75mm, Pitch 0.95mm, IPC Medium Density)
footprint DBV0005A_M (SOT23, 5-Leads, Body 3.05x1.75mm, Pitch 0.95mm, IPC Low Density)
footprint DBV0005A_L (SOT23, 5-Leads, Body 3.05x1.75mm, Pitch 0.95mm, IPC High Density)
pins: 1 A "Bidirectional signal to be switched", 2 B "Bidirectional signal to be switched", 3 GND (power) "Ground pin", 4 C (in) "Controls the switch (L = OFF, H = ON)", 5 VCC (power) "Power pin"

## SN74AUC1G66DCKR
designator U?
Single Bilateral Analog Switch, DCK0005A, LARGE T&R; Generic Part Number: SN74AUC1G66; Manufacturer: Texas Instruments; PartNumber: SN74AUC1G66DCKR; VCC(Min)(V): 0.8; VCC(Max)(V): 2.7; Output Type: CMOS; Logic: True; ICC @ Nom Voltage(Max)(mA): 0.01; Bits(#): 1; F @ Nom Voltage(Max)(Mhz): 250; Rating: Catalog; Technology Family: AUC; Voltage(Nom)(V): 0.8,1.2,1.5,1.8,2.5; Schmitt Trigger: No; Output Drive (IOL/IOH)(Max)(mA): 9/-9; Switch Configuration: SPST; tpd @ Nom Voltage(Max)(ns): 0.9,0.3,0.2,0.1; DatasheetVersion: SCES386L; PackageReference: DCK0005A; Supplier 1: Mouser; Supplier Part Number 1: 595-SN74AUC1G66DCKR; Supplier 2: Digi-Key; Supplier Part Number 2: 296-15428-2-ND; Supplier 3: Digi-Key; Supplier Part Number 3: 296-15428-1-ND; Supplier 4: Digi-Key; Supplier Part Number 4: 296-15428-6-ND; Input Type: CMOS; Operating Temperature Range(C): -40 to 85; Channels(#): 1; Sub-Family: Analog Switch; 3-State Output: No; ComponentLink1Description: Manufacturer URL; ComponentLink1URL: http://www.ti.com/; ComponentLink2Description: Datasheet; ComponentLink2URL: http://www.ti.com/lit/ds/symlink/sn74auc1g66.pdf
footprint DCK0005A_N (SOT23, 5-Leads, Body 2.15x1.4mm, Pitch 0.65mm, IPC Medium Density)
footprint DCK0005A_M (SOT23, 5-Leads, Body 2.15x1.4mm, Pitch 0.65mm, IPC Low Density)
footprint DCK0005A_L (SOT23, 5-Leads, Body 2.15x1.4mm, Pitch 0.65mm, IPC High Density)
pins: 1 A "Bidirectional signal to be switched", 2 B "Bidirectional signal to be switched", 3 GND (power) "Ground pin", 4 C (in) "Controls the switch (L = OFF, H = ON)", 5 VCC (power) "Power pin"

## SN74AUC1G66YZPR
designator U?
Single Bilateral Analog Switch, YZP0005ADAD, LARGE T&R; Generic Part Number: SN74AUC1G66; Manufacturer: Texas Instruments; PartNumber: SN74AUC1G66YZPR; VCC(Min)(V): 0.8; VCC(Max)(V): 2.7; Output Type: CMOS; Logic: True; ICC @ Nom Voltage(Max)(mA): 0.01; Bits(#): 1; F @ Nom Voltage(Max)(Mhz): 250; Rating: Catalog; Technology Family: AUC; Voltage(Nom)(V): 0.8,1.2,1.5,1.8,2.5; Schmitt Trigger: No; Output Drive (IOL/IOH)(Max)(mA): 9/-9; Switch Configuration: SPST; tpd @ Nom Voltage(Max)(ns): 0.9,0.3,0.2,0.1; DatasheetVersion: SCES386L; PackageReference: YZP0005ADAD; Supplier 1: Mouser; Supplier Part Number 1: 595-SN74AUC1G66YZPR; Supplier 2: Digi-Key; Supplier Part Number 2: 296-21809-2-ND; Supplier 3: Digi-Key; Supplier Part Number 3: 296-21809-1-ND; Supplier 4: Digi-Key; Supplier Part Number 4: 296-21809-6-ND; Input Type: CMOS; Operating Temperature Range(C): -40 to 85; Channels(#): 1; Sub-Family: Analog Switch; 3-State Output: No; ComponentLink1Description: Manufacturer URL; ComponentLink1URL: http://www.ti.com/; ComponentLink2Description: Datasheet; ComponentLink2URL: http://www.ti.com/lit/ds/symlink/sn74auc1g66.pdf
footprint YZP0005ADAD (BGA, 5-Balls, Body 1.39x0.89mm, Pitch 0.5mm)
pins: A1 A, A2 VCC (power), B1 B, C1 GND (power), C2 C (in)

## SN74AUC1G74DCTR
designator U?
Single Positive-Edge-Triggered D-Type Flip-Flop with Clear and Preset, DCT0008A, LARGE T&R; Generic Part Number: SN74AUC1G74; Manufacturer: Texas Instruments; PartNumber: SN74AUC1G74DCTR; VCC(Min)(V): 0.8; VCC(Max)(V): 2.7; Output Type: CMOS; ICC @ Nom Voltage(Max)(mA): 0.01; Bits(#): 1; F @ Nom Voltage(Max)(Mhz): 250; Rating: Catalog; Technology Family: AUC; Voltage(Nom)(V): 0.8,1.2,1.5,1.8,2.5; Schmitt Trigger: No; Output Drive (IOL/IOH)(Max)(mA): 9/-9; tpd @ Nom Voltage(Max)(ns): 9.6,3.8,3,1.5,1.1; Logic: True; DatasheetVersion: SCES537D; PackageReference: DCT0008A; Supplier 1: Mouser; Supplier Part Number 1: 595-SN74AUC1G74DCTR; Supplier 2: Digi-Key; Supplier Part Number 2: 296-18559-2-ND; Supplier 3: Digi-Key; Supplier Part Number 3: 296-18559-1-ND; Supplier 4: Digi-Key; Supplier Part Number 4: 296-18559-6-ND; Input Type: CMOS; Operating Temperature Range(C): -40 to 85; 3-State Output: No; Sub-Family: D-Type Flip-Flop; ComponentLink1Description: Manufacturer URL; ComponentLink1URL: http://www.ti.com/; ComponentLink2Description: Datasheet; ComponentLink2URL: http://www.ti.com/lit/ds/symlink/sn74auc1g74.pdf
footprint DCT0008A_N (SOP, 8-Leads, Body 2.9x3.2mm, Pitch 0.65mm, IPC Medium Density)
footprint DCT0008A_M (SOP, 8-Leads, Body 2.9x3.2mm, Pitch 0.65mm, IPC Low Density)
footprint DCT0008A_L (SOP, 8-Leads, Body 2.9x3.2mm, Pitch 0.65mm, IPC High Density)
part A pins: 1 CLK (in) "Clock input", 2 D (in) "Input", 3 Q (out) "Inverted output", 5 Q (out) "Output", 6 ~{CLR} (in) "Clear input - Pull low to set Q output low", 7 ~{PRE} (in) "Preset input - Pull low to set Q output high"
part B pins: 4 GND (power) "Ground", 8 VCC (power) "Supply"
part A text: PRE; CLR

## SN74AUC1G74DCUR
designator U?
Single Positive-Edge-Triggered D-Type Flip-Flop with Clear and Preset, DCU0008A, LARGE T&R; Generic Part Number: SN74AUC1G74; Manufacturer: Texas Instruments; PartNumber: SN74AUC1G74DCUR; VCC(Min)(V): 0.8; VCC(Max)(V): 2.7; Output Type: CMOS; ICC @ Nom Voltage(Max)(mA): 0.01; Bits(#): 1; F @ Nom Voltage(Max)(Mhz): 250; Rating: Catalog; Technology Family: AUC; Voltage(Nom)(V): 0.8,1.2,1.5,1.8,2.5; Schmitt Trigger: No; Output Drive (IOL/IOH)(Max)(mA): 9/-9; tpd @ Nom Voltage(Max)(ns): 9.6,3.8,3,1.5,1.1; Logic: True; DatasheetVersion: SCES537D; PackageReference: DCU0008A; Supplier 1: Mouser; Supplier Part Number 1: 595-SN74AUC1G74DCUR; Supplier 2: Digi-Key; Supplier Part Number 2: 296-18560-2-ND; Supplier 3: Digi-Key; Supplier Part Number 3: 296-18560-1-ND; Supplier 4: Digi-Key; Supplier Part Number 4: 296-18560-6-ND; Input Type: CMOS; Operating Temperature Range(C): -40 to 85; 3-State Output: No; Sub-Family: D-Type Flip-Flop; ComponentLink1Description: Manufacturer URL; ComponentLink1URL: http://www.ti.com/; ComponentLink2Description: Datasheet; ComponentLink2URL: http://www.ti.com/lit/ds/symlink/sn74auc1g74.pdf
footprint DCU0008A_N (SOP, 8-Leads, Body 2.4x2.1mm, Pitch 0.5mm, IPC Medium Density)
footprint DCU0008A_M (SOP, 8-Leads, Body 2.4x2.1mm, Pitch 0.5mm, IPC Low Density)
footprint DCU0008A_L (SOP, 8-Leads, Body 2.4x2.1mm, Pitch 0.5mm, IPC High Density)
part A pins: 1 CLK (in) "Clock input", 2 D (in) "Input", 3 Q (out) "Inverted output", 5 Q (out) "Output", 6 ~{CLR} (in) "Clear input - Pull low to set Q output low", 7 ~{PRE} (in) "Preset input - Pull low to set Q output high"
part B pins: 4 GND (power) "Ground", 8 VCC (power) "Supply"
part A text: PRE; CLR

## SN74AUC1G74DCURG4
designator U?
Single Positive-Edge-Triggered D-Type Flip-Flop with Clear and Preset, DCU0008A, LARGE T&R; Generic Part Number: SN74AUC1G74; Manufacturer: Texas Instruments; PartNumber: SN74AUC1G74DCURG4; VCC(Min)(V): 0.8; VCC(Max)(V): 2.7; Output Type: CMOS; ICC @ Nom Voltage(Max)(mA): 0.01; Bits(#): 1; F @ Nom Voltage(Max)(Mhz): 250; Rating: Catalog; Technology Family: AUC; Voltage(Nom)(V): 0.8,1.2,1.5,1.8,2.5; Schmitt Trigger: No; Output Drive (IOL/IOH)(Max)(mA): 9/-9; tpd @ Nom Voltage(Max)(ns): 9.6,3.8,3,1.5,1.1; Logic: True; DatasheetVersion: SCES537D; PackageReference: DCU0008A; Supplier 1: Mouser; Supplier Part Number 1: 595-74AUC1G74DCURG4; Supplier 2: Digi-Key; Supplier Part Number 2: SN74AUC1G74DCURG4-ND; Input Type: CMOS; Operating Temperature Range(C): -40 to 85; 3-State Output: No; Sub-Family: D-Type Flip-Flop; ComponentLink1Description: Manufacturer URL; ComponentLink1URL: http://www.ti.com/; ComponentLink2Description: Datasheet; ComponentLink2URL: http://www.ti.com/lit/ds/symlink/sn74auc1g74.pdf
footprint DCU0008A_N (SOP, 8-Leads, Body 2.4x2.1mm, Pitch 0.5mm, IPC Medium Density)
footprint DCU0008A_M (SOP, 8-Leads, Body 2.4x2.1mm, Pitch 0.5mm, IPC Low Density)
footprint DCU0008A_L (SOP, 8-Leads, Body 2.4x2.1mm, Pitch 0.5mm, IPC High Density)
part A pins: 1 CLK (in) "Clock input", 2 D (in) "Input", 3 Q (out) "Inverted output", 5 Q (out) "Output", 6 ~{CLR} (in) "Clear input - Pull low to set Q output low", 7 ~{PRE} (in) "Preset input - Pull low to set Q output high"
part B pins: 4 GND (power) "Ground", 8 VCC (power) "Supply"
part A text: PRE; CLR

## SN74AUC1G74RSER
designator U?
Single Positive-Edge-Triggered D-Type Flip-Flop with Clear and Preset, RSE0008A, LARGE T&R; Generic Part Number: SN74AUC1G74; Manufacturer: Texas Instruments; PartNumber: SN74AUC1G74RSER; VCC(Min)(V): 0.8; VCC(Max)(V): 2.7; Output Type: CMOS; ICC @ Nom Voltage(Max)(mA): 0.01; Bits(#): 1; F @ Nom Voltage(Max)(Mhz): 250; Rating: Catalog; Technology Family: AUC; Voltage(Nom)(V): 0.8,1.2,1.5,1.8,2.5; Schmitt Trigger: No; Output Drive (IOL/IOH)(Max)(mA): 9/-9; tpd @ Nom Voltage(Max)(ns): 9.6,3.8,3,1.5,1.1; Logic: True; DatasheetVersion: SCES537D; PackageReference: RSE0008A; Supplier 1: Mouser; Supplier Part Number 1: 595-SN74AUC1G74RSER; Supplier 2: Digi-Key; Supplier Part Number 2: 296-22774-2-ND; Supplier 3: Digi-Key; Supplier Part Number 3: 296-22774-1-ND; Supplier 4: Digi-Key; Supplier Part Number 4: 296-22774-6-ND; Input Type: CMOS; Operating Temperature Range(C): -40 to 85; 3-State Output: No; Sub-Family: D-Type Flip-Flop; ComponentLink1Description: Manufacturer URL; ComponentLink1URL: http://www.ti.com/; ComponentLink2Description: Datasheet; ComponentLink2URL: http://www.ti.com/lit/ds/symlink/sn74auc1g74.pdf
footprint RSE0008A_V (QFN, 8-Leads, Body 1.5x1.5mm, Pitch 0.5mm, TI Recommend)
part A pins: 1 ~{PRE} (in), 2 ~{CLR} (in), 3 Q (out), 5 Q (out), 6 D (in), 7 CLK (in)
part B pins: 4 GND (power), 8 VCC (power)
part A text: PRE; CLR

## SN74AUC1G74YZPR
designator U?
Single Positive-Edge-Triggered D-Type Flip-Flop with Clear and Preset, YZP0008ADAD, LARGE T&R; Generic Part Number: SN74AUC1G74; Manufacturer: Texas Instruments; PartNumber: SN74AUC1G74YZPR; VCC(Min)(V): 0.8; VCC(Max)(V): 2.7; Output Type: CMOS; ICC @ Nom Voltage(Max)(mA): 0.01; Bits(#): 1; F @ Nom Voltage(Max)(Mhz): 250; Rating: Catalog; Technology Family: AUC; Voltage(Nom)(V): 0.8,1.2,1.5,1.8,2.5; Schmitt Trigger: No; Output Drive (IOL/IOH)(Max)(mA): 9/-9; tpd @ Nom Voltage(Max)(ns): 9.6,3.8,3,1.5,1.1; Logic: True; DatasheetVersion: SCES537D; PackageReference: YZP0008ADAD; Supplier 1: Mouser; Supplier Part Number 1: 595-SN74AUC1G74YZPR; Supplier 2: Digi-Key; Supplier Part Number 2: 296-21413-2-ND; Supplier 3: Digi-Key; Supplier Part Number 3: 296-21413-1-ND; Supplier 4: Digi-Key; Supplier Part Number 4: 296-21413-6-ND; Input Type: CMOS; Operating Temperature Range(C): -40 to 85; 3-State Output: No; Sub-Family: D-Type Flip-Flop; ComponentLink1Description: Manufacturer URL; ComponentLink1URL: http://www.ti.com/; ComponentLink2Description: Datasheet; ComponentLink2URL: http://www.ti.com/lit/ds/symlink/sn74auc1g74.pdf
footprint YZP0008ADAD (BGA, 8-Balls, Body 1.89x0.89mm, Pitch 0.5mm)
part A pins: A1 CLK (in), B1 D (in), B2 ~{PRE} (in), C1 Q (out), C2 ~{CLR} (in), D2 Q (out)
part B pins: A2 VCC (power), D1 GND (power)
part A text: PRE; CLR